# Altium footprint library PcbLib.PcbLib: 2 footprints
Each footprint in its own frame and in the unit in brackets; x right, y up, seen from the top. Pads: shape width x height; smd on the part's side, far side on the other; paste and mask are expansions set on the pad; w line width, h text height; cw(c..) or ccw(c..) is an arc to the next point about the centre after c.
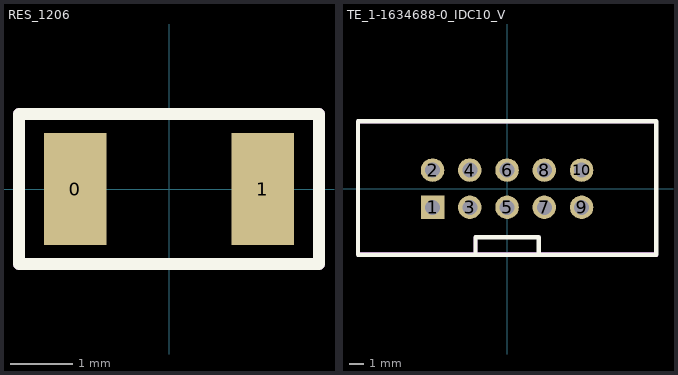
[diagram p0: the footprints below, top view; thin cyan lines are the x and y axes]

## RES_1206 [mm]
pads (2):
  rect 1x1.8 smd: 0(-1.5,0) 1(1.5,0)
Top Overlay:
  lines w0.2: -2.4,-1.2 -2.4,1.2 2.4,1.2 2.4,-1.2 -2.4,-1.2
Mechanical 1:
  lines w0.2: -2.4,-1.2 -2.4,1.2 2.4,1.2 2.4,-1.2 -2.4,-1.2
3D body: height 0.6, standoff 0, extent -1.6,-0.8 1.6,0.8
3D body: height 0.25, standoff 0, extent -2.4,1.2 -2.4,1.2

## TE_1-1634688-0_IDC10_V [mm]
height 9.1
pads (10):
  rect 1.6x1.6 hole 1.02: 1(-5.08,-1.27)
  round 1.6 hole 1.02: 2(-5.08,1.27) 3(-2.54,-1.27) 4(-2.54,1.27) 5(0,-1.27) 6(0,1.27) 7(2.54,-1.27) 8(2.54,1.27) 9(5.08,-1.27) 10(5.08,1.27)
Top Overlay:
  lines w0.254: -10.16,-4.191 -10.16,-4.5 -2.15,-4.5 -2.15,-4.073 -2.159,-4.064
  lines w0.3: -10.16,4.5 -10.16,-4.5 10.16,-4.5 10.16,4.6 -10.16,4.6 ; -2.15,-4.5 -2.15,-3.302 2.15,-3.302 2.15,-4.5
Mechanical 1:
  rectangle: 10.16,-4.572 10.287,4.572
  rectangle: -10.16,-4.635 10.287,-4.445
  lines w0.254: -10.16,-3.175 -10.16,-4.445 ; -2.159,-3.873 -2.159,-4.445 ; 2.159,-4.445 2.159,-3.302 -2.159,-3.302 -2.159,-4.445 ; -10.16,-4.445 10.16,-4.445 10.16,4.572 -10.16,4.572 -10.16,-4.445 ; -10.16,-4.445 -2.159,-4.445
  text ".Designator" at -7.366,-6.858 h1.52
3D body "C-1761681-03-A-3D.STEP": height 6.41, standoff -5.8, extent -10.16,-4.318 10.16,4.9